# EAGLE library part STEPSTICK (library JKE-StepStick)
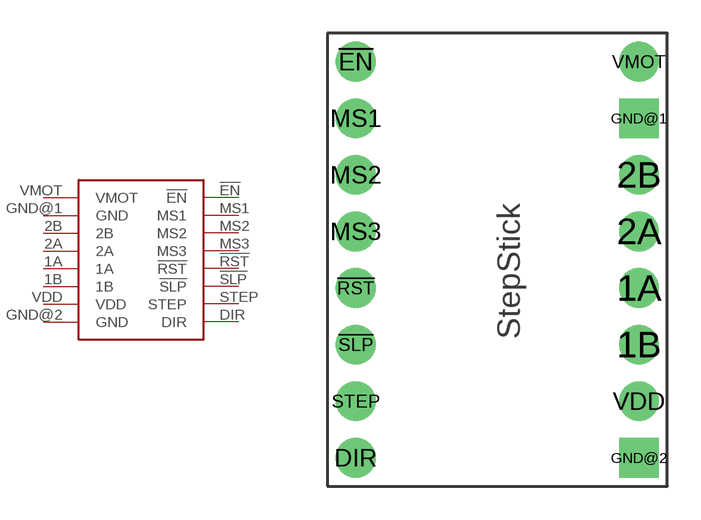
[diagram p0: symbol with the pads of STEPSTICK; footprint STEPSTICK]

Designator prefix -

## STEPSTICK  [STEPSTICK]
1A  1A  out
1B  1B  out
2A  2A  out
2B  2B  out
!EN  !EN
!RST  !RST
!SLP  !SLP
DIR  DIR
GND@1  GND  pwr
GND@2  GND
MS1  MS1
MS2  MS2
MS3  MS3
STEP  STEP
VDD  VDD
VMOT  VMOT  pwr

## Footprint STEPSTICK (pad centres in mm)
drill 1 pad 1.778: 1A 12.7,7.62; 1B 12.7,5.08; 2A 12.7,10.16; 2B 12.7,12.7; !EN 0,17.78; !RST 0,7.62; !SLP 0,5.08; DIR 0,0; MS1 0,15.24; MS2 0,12.7; MS3 0,10.16; STEP 0,2.54; VDD 12.7,2.54; VMOT 12.7,17.78
drill 1 pad 1.778 square: GND@1 12.7,15.24; GND@2 12.7,0